# EAGLE library part CONN_BAKCPLANE (library X16-ESC-Controller)
Connector to Backplane
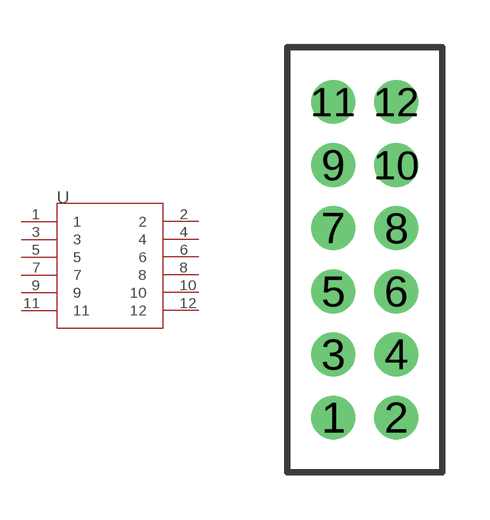
[diagram p2: symbol with the pads of BACKPLANE_CONNECTORS_BKP; footprint BACKPLANE_CONNECTORS_BKP]

Designator prefix -

## CONN_BAKCPLANE  [BACKPLANE_CONNECTORS_BKP]
1  1
2  2
3  3
4  4
5  5
6  6
7  7
8  8
9  9
10  10
11  11
12  12

## Footprint BACKPLANE_CONNECTORS_BKP (pad centres in mm)
drill 0.79 pad 1.39: 1 -1,-5; 2 1,-5; 3 -1,-3; 4 1,-3; 5 -1,-1; 6 1,-1; 7 -1,1; 8 1,1; 9 -1,3; 10 1,3; 11 -1,5; 12 1,5